# EAGLE library part OPA4348 (library texas-instruments)
1MHz, 45µA, CMOS, Rail-to-Rail Operational Amplifier The OPA348 series amplifiers are single supply, low-power, CMOS op amps in micro packaging. Featuring an extended bandwidth of 1MHz, and a supply current of 45µA, the OPA348 series is useful for low-power applications on single supplies of 2.1V to 5.5V. Low supply current of 45µA, and an input bias current of 0.5pA, make the OPA348 series an optimal candidate for low-power, high-impedance applications such as smoke detectors and other sensors. The OPA348 is available in the miniature SC70-5, SOT23-5 and SO-8 packages. The OPA2348 is available in SOT23-8 and SO-8 packages, and the OPA4348 is offered in space-saving TSSOP-14 and SO-14 packages. The extended temperature range of –40°C to +125°C over all supply voltages offers additional design flexibility.
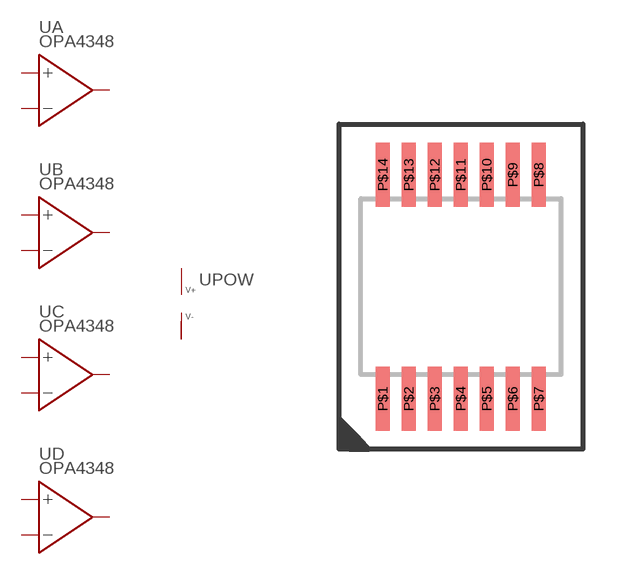
[diagram p1: symbol with the pads of TSSOP-14; footprint TSSOP-14]

Designator prefix U; gates A=OPAMP-NONSHUTDOWN B=OPAMP-NONSHUTDOWN C=OPAMP-NONSHUTDOWN D=OPAMP-NONSHUTDOWN POW=V+-

## OPA4348  [TSSOP-14]
P$1  A:OUT  out
P$2  A:-IN  in
P$3  A:+IN  in
P$4  POW:V+  pwr
P$5  B:+IN  in
P$6  B:-IN  in
P$7  B:OUT  out
P$8  C:OUT  out
P$9  C:-IN  in
P$10  C:+IN  in
P$11  POW:V-  pwr
P$12  D:+IN  in
P$13  D:-IN  in
P$14  D:OUT  out

## Footprint TSSOP-14 (pad centres in mm)
smd 0.35 x 1.6: P$1 -1.95,-2.8; P$2 -1.3,-2.8; P$3 -0.65,-2.8; P$4 0,-2.8; P$5 0.65,-2.8; P$6 1.3,-2.8; P$7 1.95,-2.8; P$8 1.95,2.8; P$9 1.3,2.8; P$10 0.65,2.8; P$11 0,2.8; P$12 -0.65,2.8; P$13 -1.3,2.8; P$14 -1.95,2.8